# EAGLE library part TRL (library K-Time)
TRL04 E = ON Delay (controled with A1-A2) R = OFF Delay (controled with B1) Wu = Single shot leading edge (controled with A1-A2) Bp = Symmetric pulse generator (controled with A1-A2) TRL07 E = ON Delay (controled with A1-A2) R = OFF Delay (controled with B1) Ws = Single shot leading edge (controled with B1) Wa = Single shot trailing edge (controled with B1) Es = ON Delay (controled with B1) Wu = Single shot leading edge (controled with A1-A2) Bp = Symmetric pulse generator (controled with A1-A2) TRLPG Ip = Asymmetric pulse generator (A1-A2, pause first) Ii = Asymmetric pulse generator (A1-A2, pulse first)
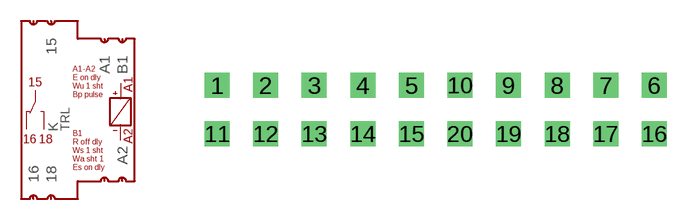
[diagram p0: symbol with the pads of NA-20; footprint NA-20]

Designator prefix K

## TRL  [NA-20]
1  A1  pas
2  A2  pas
3  B1  pas
15  15  pas
16  16  pas
18  18  pas

## Footprint NA-20 (pad centres in mm)
This is not a circuit board device
drill 0.8 square: 1 -11.43,1.27; 2 -8.89,1.27; 3 -6.35,1.27; 4 -3.81,1.27; 5 -1.27,1.27; 6 11.43,1.27; 7 8.89,1.27; 8 6.35,1.27; 9 3.81,1.27; 10 1.27,1.27; 11 -11.43,-1.27; 12 -8.89,-1.27; 13 -6.35,-1.27; 14 -3.81,-1.27; 15 -1.27,-1.27; 16 11.43,-1.27; 17 8.89,-1.27; 18 6.35,-1.27; 19 3.81,-1.27; 20 1.27,-1.27